# Altium schematic symbol library BSZ023N04LS.SchLib: 1 symbol
Pins are listed as number, name and electrical type; pins without a type are passive.

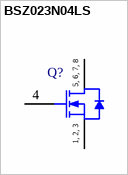
[diagram p0: symbol BSZ023N04LS]

## BSZ023N04LS
designator Q?
N-Channel OptiMOS Power-MOSFET, 40 V VDS, 40 A ID, -55 to 150 degC, PG-TSDSON-8, Reel, Green; Manufacturer: Infineon; PartNumber: BSZ023N04LS; Green: TRUE; ID (max): 40 A; IDpuls (max): 160 A; Polarity: N; Ptot (max): 69 W; QG: 37 nC; RDS (on) (max): 2.35 mOhm; RDS (on) (max) (@4.5V): 3.2 mOhm; Rth: 1.8 K/W; RthJA (max): 60 K/W; RthJC (max): 1.8 K/W; VDS (max): 40 V; VGS(th) (max): 2.2 V; VGS(th) (min): 1.2 V; DatasheetVersion: Rev. 2.0; PackageVersion: Rev. 02, 12/2010; PackageReference: PG-TSDSON-8; PackageDescription: 8-Pin Plastic (Green) Thin Dual Small Outline Non-Leaded Package, 3.3 x 3.3 mm Body, 0.65 mm Pitch; Supplier 1: Digi-Key; Supplier Part Number 1: BSZ023N04LSTR-ND; Supplier 2: Digi-Key; Supplier Part Number 2: BSZ023N04LSCT-ND; Supplier 3: Digi-Key; Supplier Part Number 3: BSZ023N04LSDKR-ND; Supplier 4: Mouser; Supplier Part Number 4: N/A; Halogen-free: TRUE; Packing: Reel; Mounting Technology: Surface Mount; ComponentLink1Description: Manufacturer URL; ComponentLink1URL: http://www.infineon.com/; ComponentLink2Description: Datasheet; ComponentLink2URL: http://www.infineon.com/dgdl/DS_BSZ023N04LS_2_0_N.T..pdf?folderId=db3a304313b8b5a60113cee8763b02d7&fileId=db3a3043353fdc160135530f51f54823; ComponentLink3Description: Package Specification; ComponentLink3URL: http://www.infineon.com/dgdl/DS_BSZ023N04LS_2_0_N.T..pdf?folderId=db3a304313b8b5a60113cee8763b02d7&fileId=db3a3043353fdc160135530f51f54823
footprint INF-PG-TSDSON-8_FL_V (TSDSON, 8-Leads, Body 3.3x3.3mm, Pitch 0.65mm)
pins: 1 SOURCE, 2 SOURCE, 3 SOURCE, 4 GATE, 5 DRAIN, 6 DRAIN, 7 DRAIN, 8 DRAIN
text: 5, 6, 7, 8; 1, 2, 3